# EAGLE library part LTC1982ES6#TRMPBF (library LTC1982ES6#TRMPBF)
Linear Technology LTC1982ES6#TRMPBF, Dual Isolated Gate Driver,, 1.8 5 V, High Side, 6-Pin SOT-23 Source: Datasheet
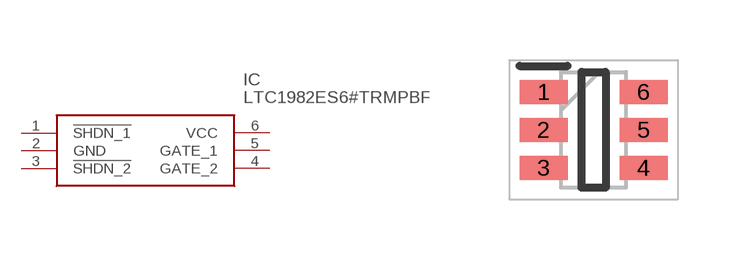
[diagram p0: symbol with the pads of SOT95P280X145-6N; footprint SOT95P280X145-6N]

Designator prefix IC

## LTC1982ES6#TRMPBF (Description: Linear Technology LTC1982ES6#TRMPBF, Dual Isolated Gate Driver,, 1.8 5 V, High Side, 6-Pin SOT-23; Height: 1.45mm; Manufacturer_Name: Analog Devices; Manufacturer_Part_Number: LTC1982ES6#TRMPBF; Mouser_Part_Number: 584-LTC1982ES6TRMPBF; Mouser_Price-Stock: https://www.mouser.co.uk/ProductDetail/Analog-Devices-Linear-Technology/LTC1982ES6TRMPBF?qs=hVkxg5c3xu8mWM6qoWHQmQ%3D%3D)  [SOT95P280X145-6N]
1  !SHDN_1
2  GND
3  !SHDN_2
4  GATE_2
5  GATE_1
6  VCC

## Footprint SOT95P280X145-6N (pad centres in mm)
6-Lead Plastic SOT-23
smd 1.2 x 0.6: 1 -1.25,0.95; 2 -1.25,0; 3 -1.25,-0.95; 4 1.25,-0.95; 5 1.25,0; 6 1.25,0.95